# EAGLE library part A2982 (library CMU-ArtFab)
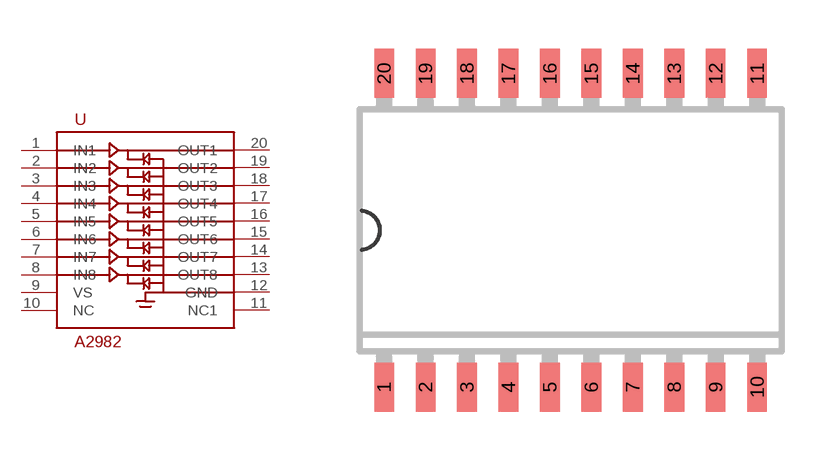
[diagram p26: symbol with the pads of SOIC20; footprint SOIC20]

Designator prefix -

## A2982  [SOIC20]
1  IN1
2  IN2
3  IN3
4  IN4
5  IN5
6  IN6
7  IN7
8  IN8
9  VS
10  NC
11  NC1
12  GND
13  OUT8
14  OUT7
15  OUT6
16  OUT5
17  OUT4
18  OUT3
19  OUT2
20  OUT1

## Footprint SOIC20 (pad centres in mm)
SO20 - Small Outline Package 7.6 x 13.0 mm
smd 0.6 x 1.5: 1 -5.715,-4.8; 2 -4.445,-4.8; 3 -3.175,-4.8; 4 -1.905,-4.8; 5 -0.635,-4.8; 6 0.635,-4.8; 7 1.905,-4.8; 8 3.175,-4.8; 9 4.445,-4.8; 10 5.715,-4.8; 11 5.715,4.8; 12 4.445,4.8; 13 3.175,4.8; 14 1.905,4.8; 15 0.635,4.8; 16 -0.635,4.8; 17 -1.905,4.8; 18 -3.175,4.8; 19 -4.445,4.8; 20 -5.715,4.8